# EAGLE library part CON_USB_MINIB (library wheat)
Cionnector, USB Mini-B AMP 1734035
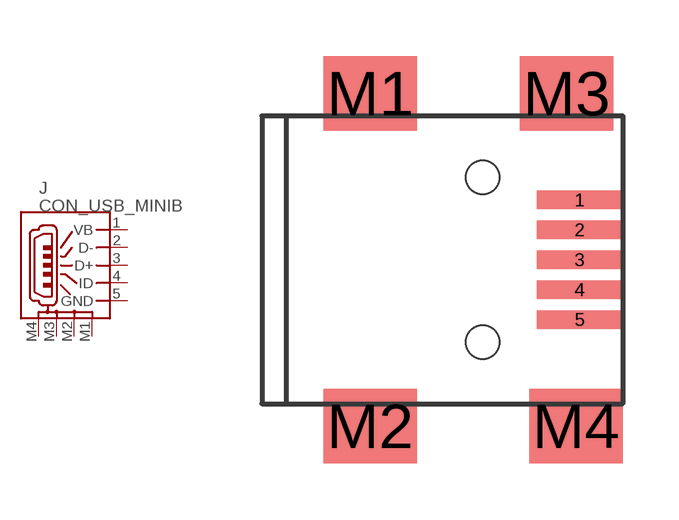
[diagram p103: symbol with the pads of CONN_USB_MINIB_AMP; footprint CONN_USB_MINIB_AMP]

Designator prefix J

## CON_USB_MINIB  [CONN_USB_MINIB_AMP]
1  VB  pas
2  D-  pas
3  D+  pas
4  ID  pas
5  GND  pas
M1  P$6  pas
M2  P$7  pas
M3  P$8  pas
M4  P$9  pas

## Footprint CONN_USB_MINIB_AMP (pad centres in mm)
Connector, USB mini-B AMP 1734035
smd 2.3 x 0.5: 1 7.85,1.6; 2 7.85,0.8; 3 7.85,0; 4 7.85,-0.8; 5 7.85,-1.6
smd 2.5 x 2: M1 2.25,4.45; M2 2.25,-4.45; M3 7.5,4.45; M4 7.75,-4.45
hole 0.9 at 5.25,2.2
hole 0.9 at 5.25,-2.2